# Altium footprint library C4649.PcbLib: 1 footprints
Each footprint in its own frame and in the unit in brackets; x right, y up, seen from the top. Pads: shape width x height; smd on the part's side, far side on the other; paste and mask are expansions set on the pad; w line width, h text height; cw(c..) or ccw(c..) is an arc to the next point about the centre after c.
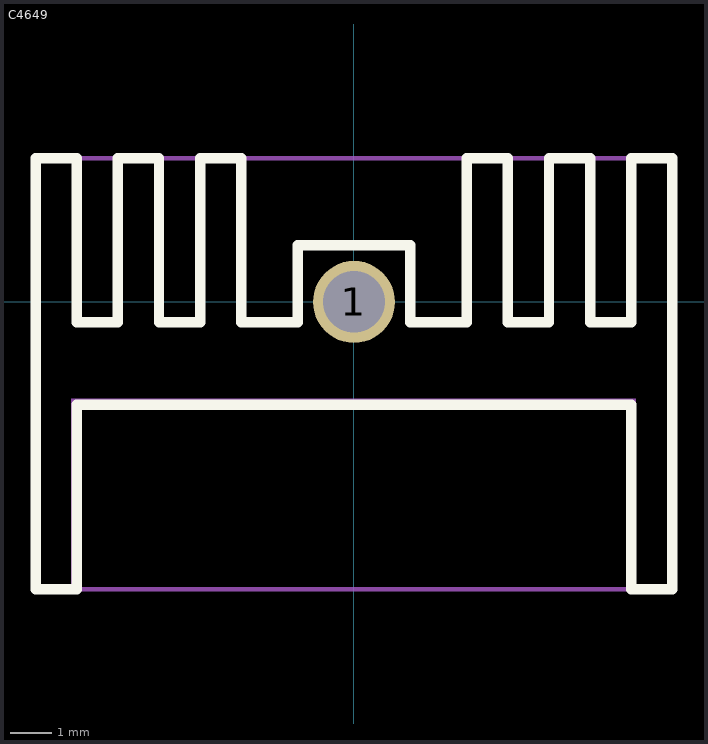
[diagram p0: the footprint, top view; thin cyan lines are the x and y axes]

## C4649 [mm]
height 0.9
pads (1):
  round 2 hole 1.5: 1(0,0)
Top Overlay:
  lines w0.254: -7.75,-7 -7.75,3.5 -6.75,3.5 -6.75,-0.5 -5.75,-0.5 -5.75,3.5 -4.75,3.5 -4.75,-0.5 -3.75,-0.5 -3.75,3.5 -2.75,3.5 -2.75,-0.5 -1.375,-0.5 -1.375,1.375 1.375,1.375 1.375,-0.5 2.75,-0.5 2.75,3.5 3.75,3.5 3.75,-0.5 4.75,-0.5 4.75,3.5 5.75,3.5 5.75,-0.5 6.75,-0.5 6.75,3.5 7.75,3.5 7.75,-7 6.75,-7 6.75,-2.5 -6.75,-2.5 -6.75,-7 -7.75,-7
Top Assembly:
  lines w0.1: -7.75,-7 -7.75,3.5 7.75,3.5 7.75,-7 -7.75,-7
  text "'.Designator'" at -0.95,0.075 h0.7
Mechanical 15:
  region: 6.711,-7.012 6.711,-2.512 -6.739,-2.512 -6.739,-2.562 -6.739,-7.012 -6.839,-7.012 -6.889,-7.012 -6.889,-2.362 6.861,-2.362 6.861,-2.512 6.861,-7.012
3D body: height 21, standoff 0, extent -7.75,-7 7.75,3.5